# EAGLE library part PCM1808 (library ali_modules)
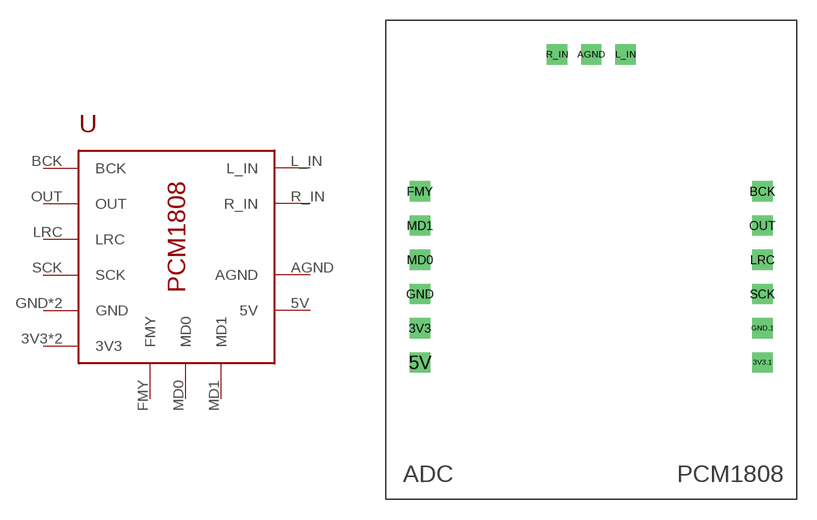
[diagram p2: symbol with the pads of ADC_MODULE; footprint ADC_MODULE]

Designator prefix -

## PCM1808  [ADC_MODULE]
3V3  3V3
3V3.1  3V3
5V  5V
AGND  AGND
BCK  BCK
FMY  FMY
GND  GND
GND.1  GND
L_IN  L_IN
LRC  LRC
MD0  MD0
MD1  MD1
OUT  OUT
R_IN  R_IN
SCK  SCK

## Footprint ADC_MODULE (pad centres in mm)
drill 1 square: 3V3 -10.16,-5.08; 3V3.1 15.24,-7.62; 5V -10.16,-7.62; AGND 2.54,15.24; BCK 15.24,5.08; FMY -10.16,5.08; GND -10.16,-2.54; GND.1 15.24,-5.08; L_IN 5.08,15.24; LRC 15.24,0; MD0 -10.16,0; MD1 -10.16,2.54; OUT 15.24,2.54; R_IN 0,15.24; SCK 15.24,-2.54